# EAGLE library part ESP8266 (library Wireless)
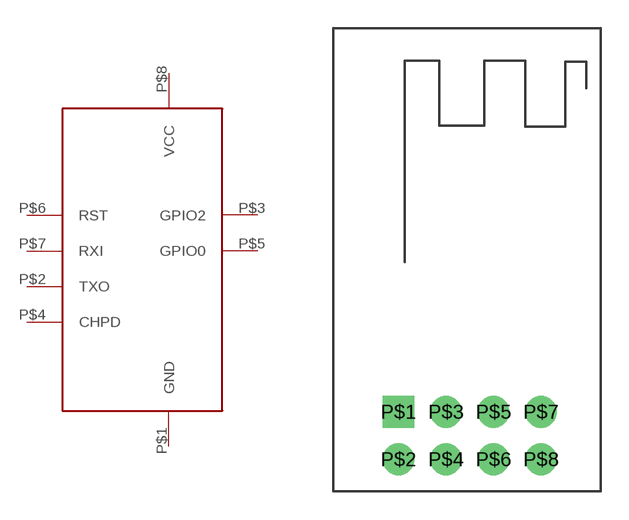
[diagram p0: symbol with the pads of ESP8266_MODULE; footprint ESP8266_MODULE]

Designator prefix -

## ESP8266ESP8266_MODULE_1  [ESP8266_MODULE]
P$1  GND
P$2  TXO
P$3  GPIO2
P$4  CHPD
P$5  GPIO0
P$6  RST
P$7  RXI
P$8  VCC

## Footprint ESP8266_MODULE (pad centres in mm)
drill 0.8 pad 1.7 square: P$1 3.5,4.26
drill 0.8 pad 1.7: P$2 3.5,1.72; P$3 6.04,4.26; P$4 6.04,1.72; P$5 8.58,4.26; P$6 8.58,1.72; P$7 11.12,4.26; P$8 11.12,1.72